# Altium schematic symbol library D_DO214AB(SMC).SchLib: 1 symbol
Pins are listed as number, name and electrical type; pins without a type are passive.

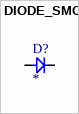
[diagram p0: symbol DIODE_SMC]

## DIODE_SMC
designator D?
Manufacturer: *; Manufacturer Part: *; Value: *; Voltage: *
footprint SMC
pins: 1, 2